# Altium footprint library esp32.PcbLib: 3 footprints
Each footprint in its own frame and in the unit in brackets; x right, y up, seen from the top. Pads: shape width x height; smd on the part's side, far side on the other; paste and mask are expansions set on the pad; w line width, h text height; cw(c..) or ccw(c..) is an arc to the next point about the centre after c.
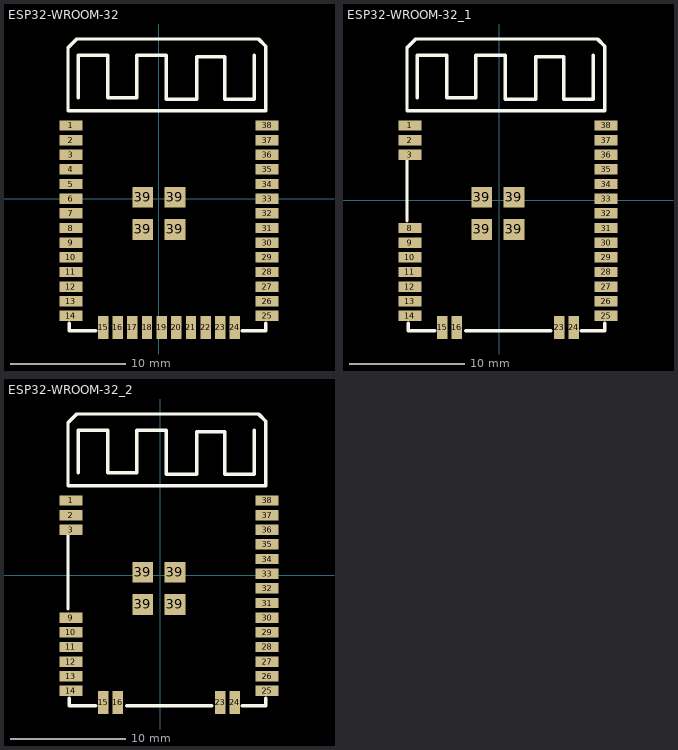
[diagram p0: the footprints below, top view; thin cyan lines are the x and y axes]

## ESP32-WROOM-32 [mm]
pads (42):
  rect 2x0.9 smd: 1(-7.62,6.35) 2(-7.62,5.08) 3(-7.62,3.81) 4(-7.62,2.54) 5(-7.62,1.27) 6(-7.62,0) 7(-7.62,-1.27) 8(-7.62,-2.54) 9(-7.62,-3.81) 10(-7.62,-5.08) 11(-7.62,-6.35) 12(-7.62,-7.62) 13(-7.62,-8.89) 14(-7.62,-10.16) 25(9.38,-10.16) 26(9.38,-8.89) 27(9.38,-7.62) 28(9.38,-6.35) 29(9.38,-5.08) 30(9.38,-3.81) 31(9.38,-2.54) 32(9.38,-1.27) 33(9.38,0) 34(9.38,1.27) 35(9.38,2.54) 36(9.38,3.81) 37(9.38,5.08) 38(9.38,6.35)
  rect 0.9x2 smd: 15(-4.835,-11.16) 16(-3.565,-11.16) 17(-2.295,-11.16) 18(-1.025,-11.16) 19(0.245,-11.16) 20(1.515,-11.16) 21(2.785,-11.16) 22(4.055,-11.16) 23(5.325,-11.16) 24(6.595,-11.16)
  rect 1.8x1.8 smd: 39(-1.397,-2.667) 39(-1.397,0.127) 39(1.397,-2.667) 39(1.397,0.127)
Top Overlay:
  lines w0.3: -7.747,-10.795 -7.747,-11.43 -5.461,-11.43 ; -6.985,8.763 -6.985,12.446 -4.445,12.446 -4.445,8.763 -1.905,8.763 -1.905,12.446 0.635,12.446 0.635,8.636 3.302,8.636 3.302,12.319 5.715,12.319 5.715,8.636 8.255,8.636 8.255,12.446 ; 7.239,-11.43 9.271,-11.43 9.271,-10.795 ; -7.874,7.62 -7.874,13.081 -7.112,13.843 8.636,13.843 9.271,13.208 9.271,7.62 -7.874,7.62

## ESP32-WROOM-32_1 [mm]
pads (32):
  rect 2x0.9 smd: 1(-7.747,6.477) 2(-7.747,5.207) 3(-7.747,3.937) 8(-7.747,-2.413) 9(-7.747,-3.683) 10(-7.747,-4.953) 11(-7.747,-6.223) 12(-7.747,-7.493) 13(-7.747,-8.763) 14(-7.747,-10.033) 25(9.253,-10.033) 26(9.253,-8.763) 27(9.253,-7.493) 28(9.253,-6.223) 29(9.253,-4.953) 30(9.253,-3.683) 31(9.253,-2.413) 32(9.253,-1.143) 33(9.253,0.127) 34(9.253,1.397) 35(9.253,2.667) 36(9.253,3.937) 37(9.253,5.207) 38(9.253,6.477)
  rect 0.9x2 smd: 15(-4.962,-11.033) 16(-3.692,-11.033) 23(5.198,-11.033) 24(6.468,-11.033)
  rect 1.8x1.8 smd: 39(-1.524,-2.54) 39(-1.524,0.254) 39(1.27,-2.54) 39(1.27,0.254)
Top Overlay:
  lines w0.3: -8.001,-1.778 -8.001,3.429 ; -7.874,-10.668 -7.874,-11.303 -5.588,-11.303 ; -7.112,8.89 -7.112,12.573 -4.572,12.573 -4.572,8.89 -2.032,8.89 -2.032,12.573 0.508,12.573 0.508,8.763 3.175,8.763 3.175,12.446 5.588,12.446 5.588,8.763 8.128,8.763 8.128,12.573 ; -2.921,-11.303 4.445,-11.303 ; 7.112,-11.303 9.144,-11.303 9.144,-10.668 ; -8.001,7.747 9.144,7.747 9.144,13.335 8.509,13.97 -7.239,13.97 -8.001,13.208 -8.001,7.747

## ESP32-WROOM-32_2 [mm]
pads (31):
  rect 2x0.9 smd: 1(-7.747,6.477) 2(-7.747,5.207) 3(-7.747,3.937) 9(-7.747,-3.683) 10(-7.747,-4.953) 11(-7.747,-6.223) 12(-7.747,-7.493) 13(-7.747,-8.763) 14(-7.747,-10.033) 25(9.253,-10.033) 26(9.253,-8.763) 27(9.253,-7.493) 28(9.253,-6.223) 29(9.253,-4.953) 30(9.253,-3.683) 31(9.253,-2.413) 32(9.253,-1.143) 33(9.253,0.127) 34(9.253,1.397) 35(9.253,2.667) 36(9.253,3.937) 37(9.253,5.207) 38(9.253,6.477)
  rect 0.9x2 smd: 15(-4.962,-11.033) 16(-3.692,-11.033) 23(5.198,-11.033) 24(6.468,-11.033)
  rect 1.8x1.8 smd: 39(-1.524,-2.54) 39(-1.524,0.254) 39(1.27,-2.54) 39(1.27,0.254)
Top Overlay:
  lines w0.3: -8.001,-2.921 -8.001,3.429 ; -7.874,-10.668 -7.874,-11.303 -5.588,-11.303 ; -7.112,8.89 -7.112,12.573 -4.572,12.573 -4.572,8.89 -2.032,8.89 -2.032,12.573 0.508,12.573 0.508,8.763 3.175,8.763 3.175,12.446 5.588,12.446 5.588,8.763 8.128,8.763 8.128,12.573 ; -2.921,-11.303 4.445,-11.303 ; 7.112,-11.303 9.144,-11.303 9.144,-10.668 ; -8.001,7.747 9.144,7.747 9.144,13.335 8.509,13.97 -7.239,13.97 -8.001,13.208 -8.001,7.747